# Altium footprint library 100v104CBB.PcbLib: 1 footprints
Each footprint in its own frame and in the unit in brackets; x right, y up, seen from the top. Pads: shape width x height; smd on the part's side, far side on the other; paste and mask are expansions set on the pad; w line width, h text height; cw(c..) or ccw(c..) is an arc to the next point about the centre after c.
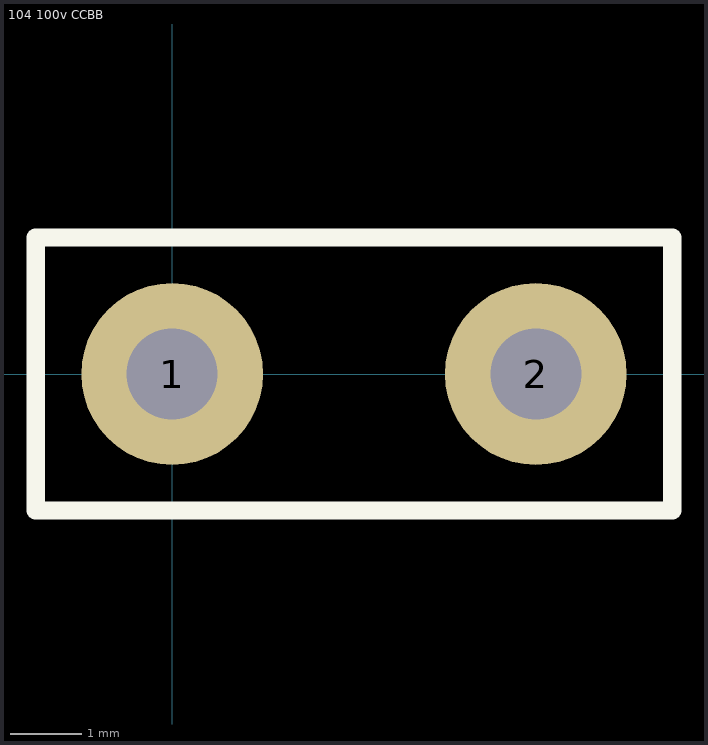
[diagram p0: the footprint, top view; thin cyan lines are the x and y axes]

## 104 100v CCBB [mil]
pads (2):
  round 100 hole 50: 1(0,0) 2(200,0)
Top Overlay:
  lines w10: -75,-75 -75,75 275,75 275,-75 -75,-75